# EAGLE library part SD_CARD_SLOT (library SSI)
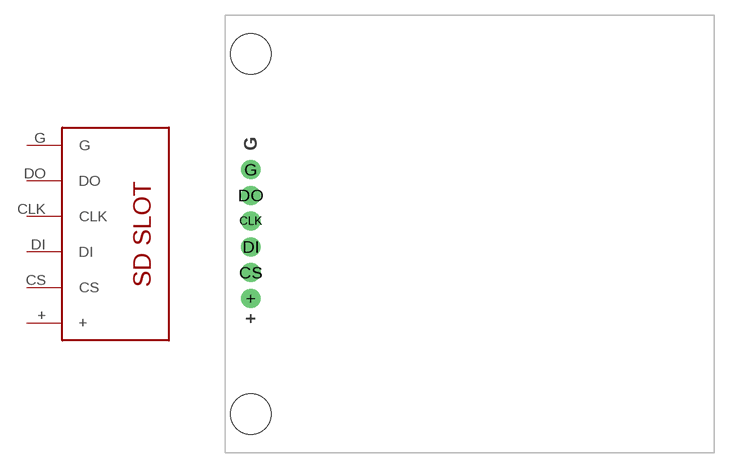
[diagram p2: symbol with the pads of SD_CARD_SLOT; footprint SD_CARD_SLOT]

Designator prefix -

## SD_CARD_SLOT  [SD_CARD_SLOT]
+  +
CLK  CLK
CS  CS
DI  DI
DO  DO
G  G

## Footprint SD_CARD_SLOT (pad centres in mm)
SD/MicroSD Card Slot Reasonably correct. Still pretty questionable. Use at your own risk.
drill 1.016 pad 1.88: + -5.08,-6.35; CLK -5.08,1.27; CS -5.08,-3.81; DI -5.08,-1.27; DO -5.08,3.81; G -5.08,6.35
hole 4 at -5.08,-17.78
hole 4 at -5.08,17.78